# Altium footprint library WE-UCF.PcbLib: 1 footprints
Each footprint in its own frame and in the unit in brackets; x right, y up, seen from the top. Pads: shape width x height; smd on the part's side, far side on the other; paste and mask are expansions set on the pad; w line width, h text height; cw(c..) or ccw(c..) is an arc to the next point about the centre after c.
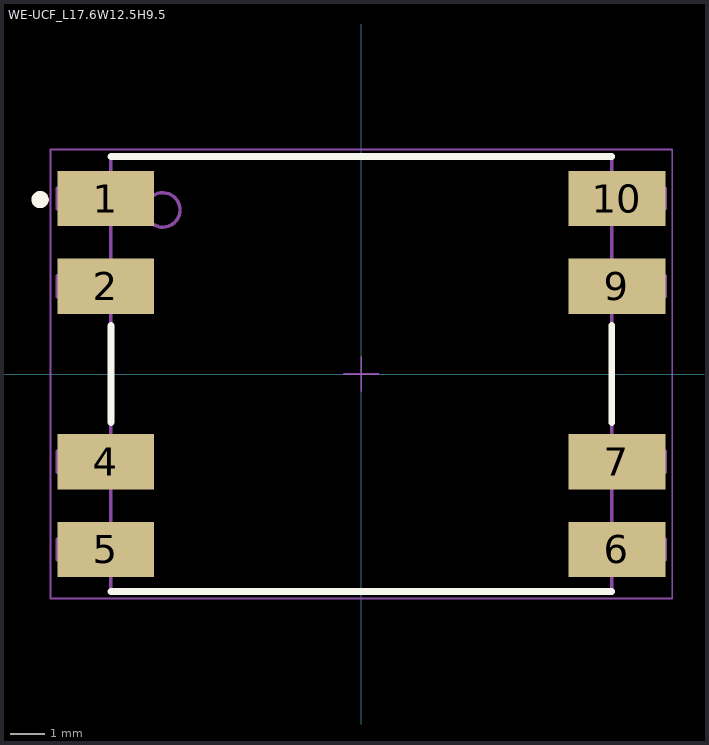
[diagram p0: the footprint, top view; thin cyan lines are the x and y axes]

## WE-UCF_L17.6W12.5H9.5 [mm] "SMD Inductor, body 14.5x12.5mm"
height 9.5
pads (8):
  rect 2.8x1.6 smd: 1(-7.4,5.08) 2(-7.4,2.54) 4(-7.4,-2.54) 5(-7.4,-5.08) 6(7.4,-5.08) 7(7.4,-2.54) 9(7.4,2.54) 10(7.4,5.08)
Top Overlay:
  circle w0.25: c-9.3,5.05 r0.125
  lines w0.2: -7.25,-6.3 7.25,-6.3 ; -7.25,-1.4 -7.25,1.4 ; -7.25,6.3 7.25,6.3 ; 7.25,-1.4 7.25,1.4
Top Designator:
  text ".Designator" at -7.498,-0.5 h1.5
Top Component Outline:
  circle w0.1: c-5.75,4.75 r0.5
  lines w0.1: -7.25,-5.38 -8.8,-5.38 -8.8,-4.78 -7.25,-4.78 ; -7.25,-2.84 -8.8,-2.84 -8.8,-2.24 -7.25,-2.24 ; -7.25,2.24 -8.8,2.24 -8.8,2.84 -7.25,2.84 ; -7.25,4.78 -8.8,4.78 -8.8,5.38 -7.25,5.38 ; 7.25,-5.38 8.8,-5.38 8.8,-4.78 7.25,-4.78 ; 7.25,-2.84 8.8,-2.84 8.8,-2.24 7.25,-2.24 ; 7.25,2.24 8.8,2.24 8.8,2.84 7.25,2.84 ; 7.25,4.78 8.8,4.78 8.8,5.38 7.25,5.38 ; -7.25,-6.25 -7.25,6.25 7.25,6.25 7.25,-6.25 -7.25,-6.25
Top 3D Body:
  circle w0.1: c-5.75,4.75 r0.5
  lines w0.1: -7.25,-5.38 -8.8,-5.38 -8.8,-4.78 -7.25,-4.78 ; -7.25,-2.84 -8.8,-2.84 -8.8,-2.24 -7.25,-2.24 ; -7.25,2.24 -8.8,2.24 -8.8,2.84 -7.25,2.84 ; -7.25,4.78 -8.8,4.78 -8.8,5.38 -7.25,5.38 ; 7.25,-5.38 8.8,-5.38 8.8,-4.78 7.25,-4.78 ; 7.25,-2.84 8.8,-2.84 8.8,-2.24 7.25,-2.24 ; 7.25,2.24 8.8,2.24 8.8,2.84 7.25,2.84 ; 7.25,4.78 8.8,4.78 8.8,5.38 7.25,5.38 ; -7.25,-6.25 -7.25,6.25 7.25,6.25 7.25,-6.25 -7.25,-6.25
Top Courtyard:
  lines w0.05: -0.5,0 0.5,0 ; 0,-0.5 0,0.5 ; -9,-6.5 9,-6.5 9,6.5 -9,6.5 -9,-6.5
3D body "744290xxx_2-turns.stp": height 9.5, standoff 0, extent -8.8,-6.25 8.8,6.25